# Altium schematic symbol library Components - 17.08.21 - 11.11.SchLib: 1 symbol
Pins are listed as number, name and electrical type; pins without a type are passive.

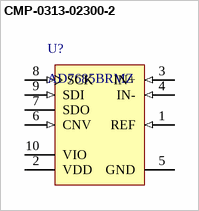
[diagram p0: symbol CMP-0313-02300-2]

## CMP-0313-02300-2
designator U?, comment AD7685BRMZ
Single 16-Bit PulSAR Analog-to-Digital Converter with Serial, SPI Interface, 250KSPS, -40 to +85 degC, RM-10, Pb-Free, Tube; Generic Part Number: AD7685; Manufacturer: Analog Devices; Interface: Ser, SPI; Resolution (Bits): 16; Throughput Rate (SPS): 250K; Channels: 1; PartNumber: AD7685BRMZ; ComponentLink1Description: Manufacturer URL; ComponentLink4URL: http://www.analog.com/en/analog-to-digital-converters/ad-converters/ad7685/products/product.html; PackageDescription: 10-Lead Mini Small Outline Package [MSOP]; Packing: Tube; Mounting Technology: Surface Mount; ComponentLink2URL: http://www.analog.com/static/imported-files/data_sheets/AD7685.pdf; ComponentLink4Description: Product URL; ComponentLink3URL: http://www.analog.com/static/imported-files/packages/PKG_PDF/MSOP%28RM%29/RM_10.pdf; ComponentLink2Description: Datasheet; PackageVersion: May-2005; PackageReference: RM-10; RoHS: Y; DatasheetVersion: Rev.C; ComponentLink3Description: Package Specification; ComponentLink1URL: http://www.analog.com/en/index.html
footprint RM-10_M (TSSOP, 10-Leads, Body 3x3mm, Pitch 0.5mm, IPC Low Density)
footprint RM-10_N (TSSOP, 10-Leads, Body 3x3mm, Pitch 0.5mm, IPC Medium Density)
footprint RM-10_L (TSSOP, 10-Leads, Body 3x3mm, Pitch 0.5mm, IPC High Density)
pins: 1 REF (in) "Reference Input Voltage. The REF range is from 0.5 V to VDD. It is referred to the GND pin. This pin should be decoupled closely to the pin with a 10 uF capacitor.", 2 VDD (power) "Power Supply.", 3 IN+ (in) "Analog Input. It is referred to IN-. The voltage range, that is, the difference between IN+ and IN-, is 0 V to VREF.", 4 IN- (in) "Analog Input Ground Sense. Connect to the analog ground plane or to a remote sense ground.", 5 GND (power) "Power Supply Ground.", 6 CNV (in) "Convert Input. This input has multiple functions. On its leading edge, it initiates the conversions and selects the interface mode of the part, chain, or C\S\ mode. In C\S\ mode, it enables the SDO pin when low. In chain (See Datasheet)", 7 SDO (hiz) "Serial Data Output. The conversion result is output on this pin. It is synchronized to SCK.", 8 SCK (in) "Serial Data Clock Input. When the part is selected, the conversion result is shifted out by this clock.", 9 SDI (in) "Serial Data Input. This input provides multiple features. It selects the interface mode of the ADC as follows:Chain mode is selected if SDI is low during the CNV rising edge. In this mode, SDI is used as a data input to (See Datasheet)", 10 VIO (power) "Input/Output Interface Digital Power. Nominally at the same supply as the host interface (1.8 V, 2.5 V, 3 V, or 5 V)."